# Altium footprint library Voltage Converters.PcbLib: 1 footprints
Each footprint in its own frame and in the unit in brackets; x right, y up, seen from the top. Pads: shape width x height; smd on the part's side, far side on the other; paste and mask are expansions set on the pad; w line width, h text height; cw(c..) or ccw(c..) is an arc to the next point about the centre after c.
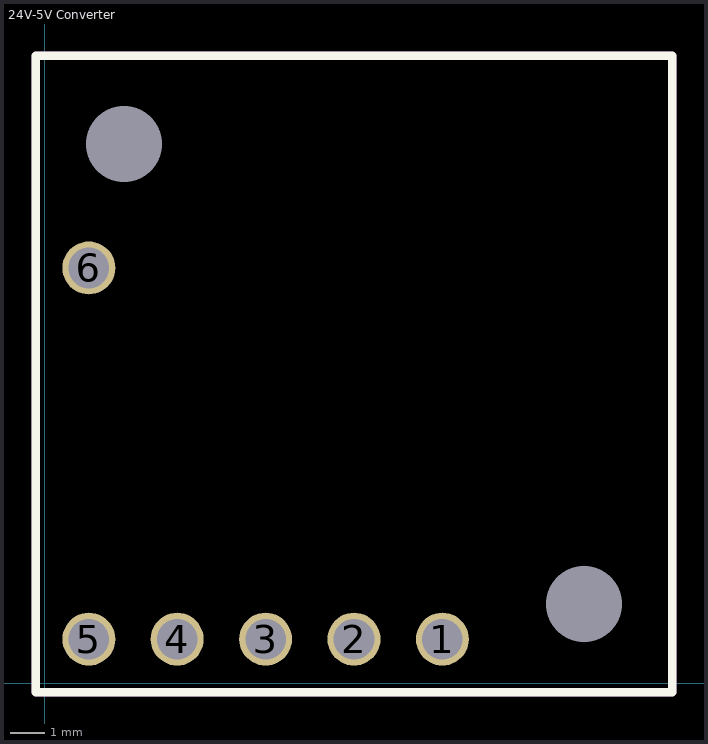
[diagram p0: the footprint, top view; thin cyan lines are the x and y axes]

## 24V-5V Converter [mil]
pads (8):
  round 60 hole 46: 1(450,50) 2(350,50) 3(250,50) 4(150,50) 5(50,50) 6(50,470)
  round 60 hole 86 unplated: ""(90,610) ""(610,90)
Top Overlay:
  lines w10: -10,-10 -10,710 710,710 710,-10 -10,-10
Mechanical 1:
  lines w10: -10,-10 -10,710 710,710 710,-10 -10,-10
3D body "d24v22fx-step-down-voltage-regulator.step": height 380.29, standoff 56.69, extent 0,0 700,700